# EAGLE library part SOCKET_SENIOR (library socket)
CUSTOMIZE SOCKET FOR ATMEGA FOR MY SENIOR PROJECT
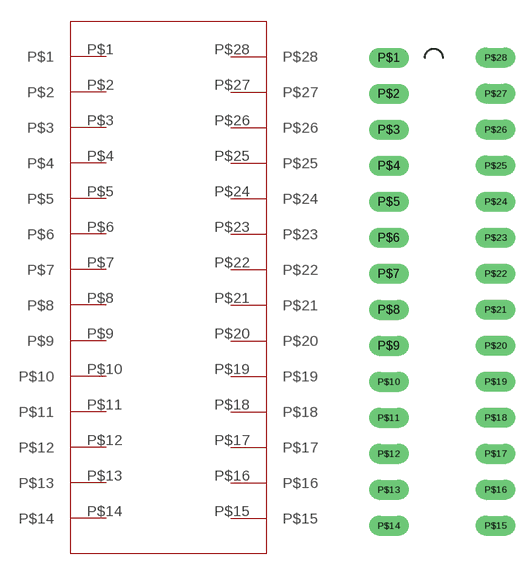
[diagram p0: symbol with the pads of SOCKET_SENIOR; footprint SOCKET_SENIOR]

Designator prefix -

## SOCKET_SENIOR  [SOCKET_SENIOR]
P$1  P$1
P$2  P$2
P$3  P$3
P$4  P$4
P$5  P$5
P$6  P$6
P$7  P$7
P$8  P$8
P$9  P$9
P$10  P$10
P$11  P$11
P$12  P$12
P$13  P$13
P$14  P$14
P$15  P$15
P$16  P$16
P$17  P$17
P$18  P$18
P$19  P$19
P$20  P$20
P$21  P$21
P$22  P$22
P$23  P$23
P$24  P$24
P$25  P$25
P$26  P$26
P$27  P$27
P$28  P$28

## Footprint SOCKET_SENIOR (pad centres in mm)
drill 0.9 pad 1.27 long: P$1 0,33.02; P$2 0,30.48; P$3 0,27.94; P$4 0,25.4; P$5 0,22.86; P$6 0,20.32; P$7 0,17.78; P$8 0,15.24; P$9 0,12.7; P$10 0,10.16; P$11 0,7.62; P$12 0,5.08; P$13 0,2.54; P$14 0,0; P$15 7.54,0.01; P$16 7.54,2.55; P$17 7.54,5.09; P$18 7.54,7.63; P$19 7.54,10.17; P$20 7.54,12.71; P$21 7.54,15.25; P$22 7.54,17.79; P$23 7.54,20.33; P$24 7.54,22.87; P$25 7.54,25.41; P$26 7.54,27.95; P$27 7.54,30.49; P$28 7.54,33.03